# Altium integrated library Keystone Battery.IntLib: 1 symbol
Pins are listed as number, name and electrical type; pins without a type are passive.

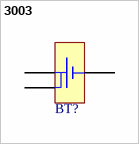
[diagram p0: symbol 3003]

## 3003
designator BT?
Lithium Coin Cell Battery Retainer for 20mm Dia. Cell Size, Thru-Hole, 21.1x19.9mm; PCB_Layout: Complies with manufacturer's recommendation.; Published: 30-May-2008; DatasheetVersion: Jan-2007; PackageVersion: Jan-2007; PackageReference: 3003; Publisher: Altium Limited; PackageDescription: Battery Retainer for Lithium 20mm Dia. cell, Thru-Hole; Body 21.1 x 19.9 mm; ComponentLink1Description: Manufacturer Link; ComponentLink1URL: http://www.keyelco.com/; ComponentLink2Description: Datasheet; ComponentLink2URL: http://www.keyelco.com/pdfs/M55p4.pdf
footprint 3003 (Battery Retainer for 20mm Dia. cell, Thru-Hole; Body 21.1 x 19.9 mm)
pins: 2 -, MH1 +, MH2 +